# EAGLE library part MINI-USB- (library XP9300)
MINI USB-B Conector Source: www.cypressindustries.com
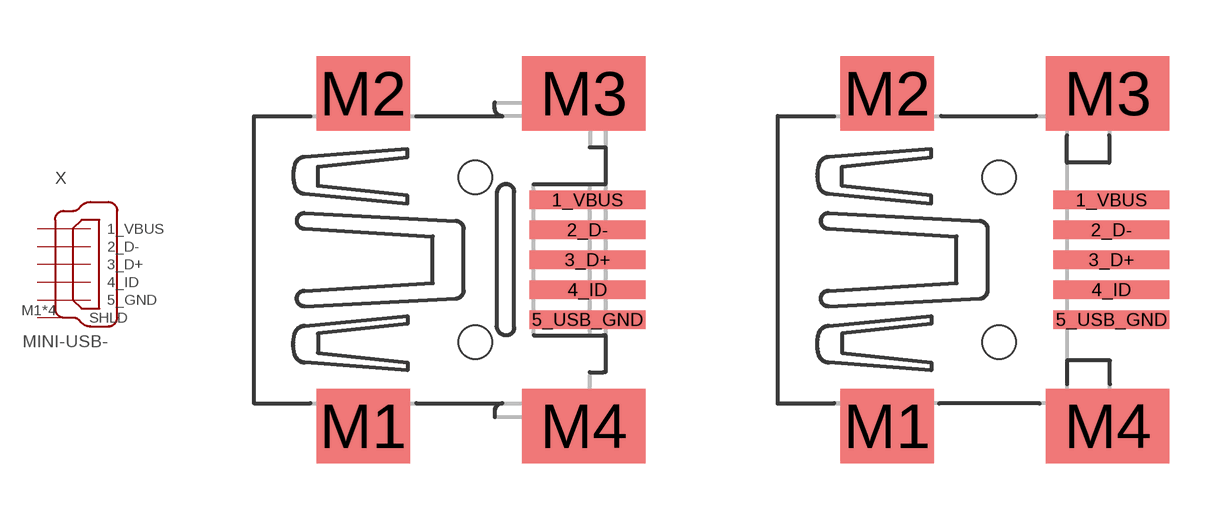
[diagram p4: symbol with the pads of 32005-201; footprints 32005-201, 32005-301]

Designator prefix X

## MINI-USB-32005-201  [32005-201]
1_VBUS  1_VBUS  pas
2_D-  2_D-  pas
3_D+  3_D+  pas
4_ID  4_ID  pas
5_USB_GND  5_GND  pas
M1  SHLD  pas
M2  SHLD  pas
M3  SHLD  pas
M4  SHLD  pas

## MINI-USB-32005-301  [32005-301]
Pads as for 32005-201

## MINI-USB-VERT  [USB_MINI_VERT]
P$1  1_VBUS  pas
P$2  2_D-  pas
P$3  3_D+  pas
P$4  4_ID  pas
P$5  5_GND  pas
P$6  SHLD  pas
P$7  SHLD  pas

## Footprint 32005-201 (pad centres in mm)
MINI USB-B R/A SMT W/ REAR Source: http://www.cypressindustries.com/pdf/32005-201.pdf
smd 3.1 x 0.5: 1_VBUS 3,1.6; 2_D- 3,0.8; 3_D+ 3,0; 4_ID 3,-0.8; 5_USB_GND 3,-1.6
smd 2.5 x 2: M1 -3,-4.45; M2 -3,4.45
smd 3.3 x 2: M3 2.9,4.45; M4 2.9,-4.45
hole 0.9 at 0,2.2
hole 0.9 at 0,-2.2

## Footprint 32005-301 (pad centres in mm)
MINI USB-B R/A SMT W/O REAR Source: http://www.cypressindustries.com/pdf/32005-301.pdf
smd 3.1 x 0.5: 1_VBUS 3,1.6; 2_D- 3,0.8; 3_D+ 3,0; 4_ID 3,-0.8; 5_USB_GND 3,-1.6
smd 2.5 x 2: M1 -3,-4.45; M2 -3,4.45
smd 3.3 x 2: M3 2.9,4.45; M4 2.9,-4.45
hole 0.9 at 0,2.2
hole 0.9 at 0,-2.2

## Footprint USB_MINI_VERT (pad centres in mm)
drill 0.6: P$1 0.9,2.8; P$2 -0.9,3.6; P$3 0.9,4.4; P$4 -0.9,5.2; P$5 0.9,6
drill 2: P$6 0.051,8.608; P$7 0,0